# Altium integrated library PowerBoardLib1.IntLib: 7 symbols
Pins are listed as number, name and electrical type; pins without a type are passive.

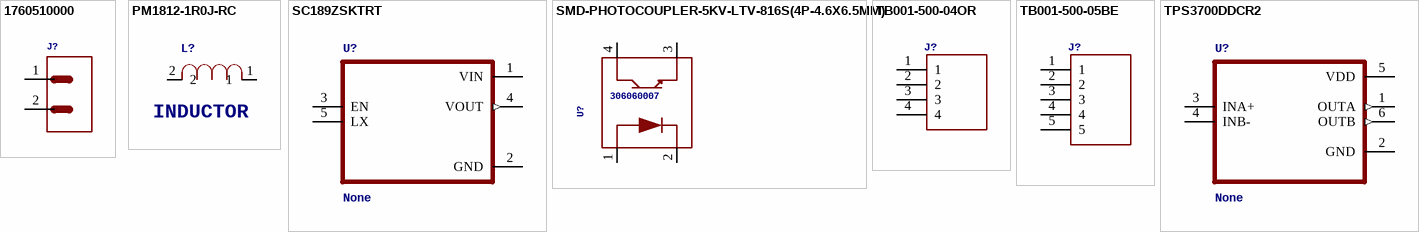
[diagram p0: symbols 1760510000 to TPS3700DDCR2]

## 1760510000
designator J?, comment 15A 2P TERM BLOCK, BLACKtested: NO  (value not drawn)
GateName_1: G$1; SymbolName_1: CONN2; DeviceSetName: 1760510000; LibraryName: PowerBoardLib1; Package: 1760490000
footprint 1760490000
pins: 1, 2

## PM1812-1R0J-RC
designator L?, comment INDUCTOR
GateName_1: A; SymbolName_1: IND; DeviceSetName: PM1812-1R0J-RC; TOLERANCE: ±5%; LibraryName: PowerBoardLib1; Package: INDC4532X34N; OC_FARNELL: -; SUPPLIER: BOURNS; MPN: PM1812-1R0J-RC; OC_NEWARK: 63K3131
footprint INDC4532X34N
pins: 1, 2

## SC189ZSKTRT
designator U?, comment None
Manufacturer: Semtech Corporation; GateName_1: G$1; SymbolName_1: SC189ZSKTRT; LibraryName: PowerBoardLib1; DeviceSetName: SC189ZSKTRT; Package: SOT95P280X145-5N
footprint SOT95P280X145-5N
pins: 1 VIN (power), 2 GND (power), 3 EN, 4 VOUT (out), 5 LX

## SMD-PHOTOCOUPLER-5KV-LTV-816S(4P-4.6X6.5MM)
designator U?, comment 306060007
MPN: LTV-816S; GateName_1: G$1; SymbolName_1: PHOTOCOUPLER-LTV-816S; DeviceSetName: SMD-PHOTOCOUPLER-5KV-LTV-816S(4P-4.6X6.5MM); LibraryName: PowerBoardLib1; Package: SMD4-2.54-4.6X6.5MM
footprint SMD4-2.54-4.6X6.5MM
pins: 1 ANODE, 2 CATHODE, 3 EMITER, 4 COLLECTOR

## TB001-500-04OR
designator J?
MANUFACTURER: CUI; GateName_1: G$1; SymbolName_1: TB001-500-04OR; LibraryName: PowerBoardLib1; DeviceSetName: TB001-500-04OR; Package: CUI_TB001-500-04OR; STANDARD: Manufacturer Recommendations
footprint CUI_TB001-500-04OR
pins: 1, 2, 3, 4

## TB001-500-05BE
designator J?
MANUFACTURER: CUI; GateName_1: G$1; SymbolName_1: TB001-500-05BE; LibraryName: PowerBoardLib1; DeviceSetName: TB001-500-05BE; Package: CUI_TB001-500-05BE; STANDARD: Manufacturer Recommendations
footprint CUI_TB001-500-05BE
pins: 1, 2, 3, 4, 5

## TPS3700DDCR2
designator U?, comment None
Manufacturer: Texas Instruments; GateName_1: G$1; SymbolName_1: TPS3700DDCR2; LibraryName: PowerBoardLib1; DeviceSetName: TPS3700DDCR2; Package: SOT95P280X110-6N
footprint SOT95P280X110-6N
pins: 1 OUTA (out), 2 GND (power), 3 INA+, 4 INB-, 5 VDD (power), 6 OUTB (out)